# Altium schematic symbol library connector.SchLib: 55 symbols
Pins are listed as number, name and electrical type; pins without a type are passive.

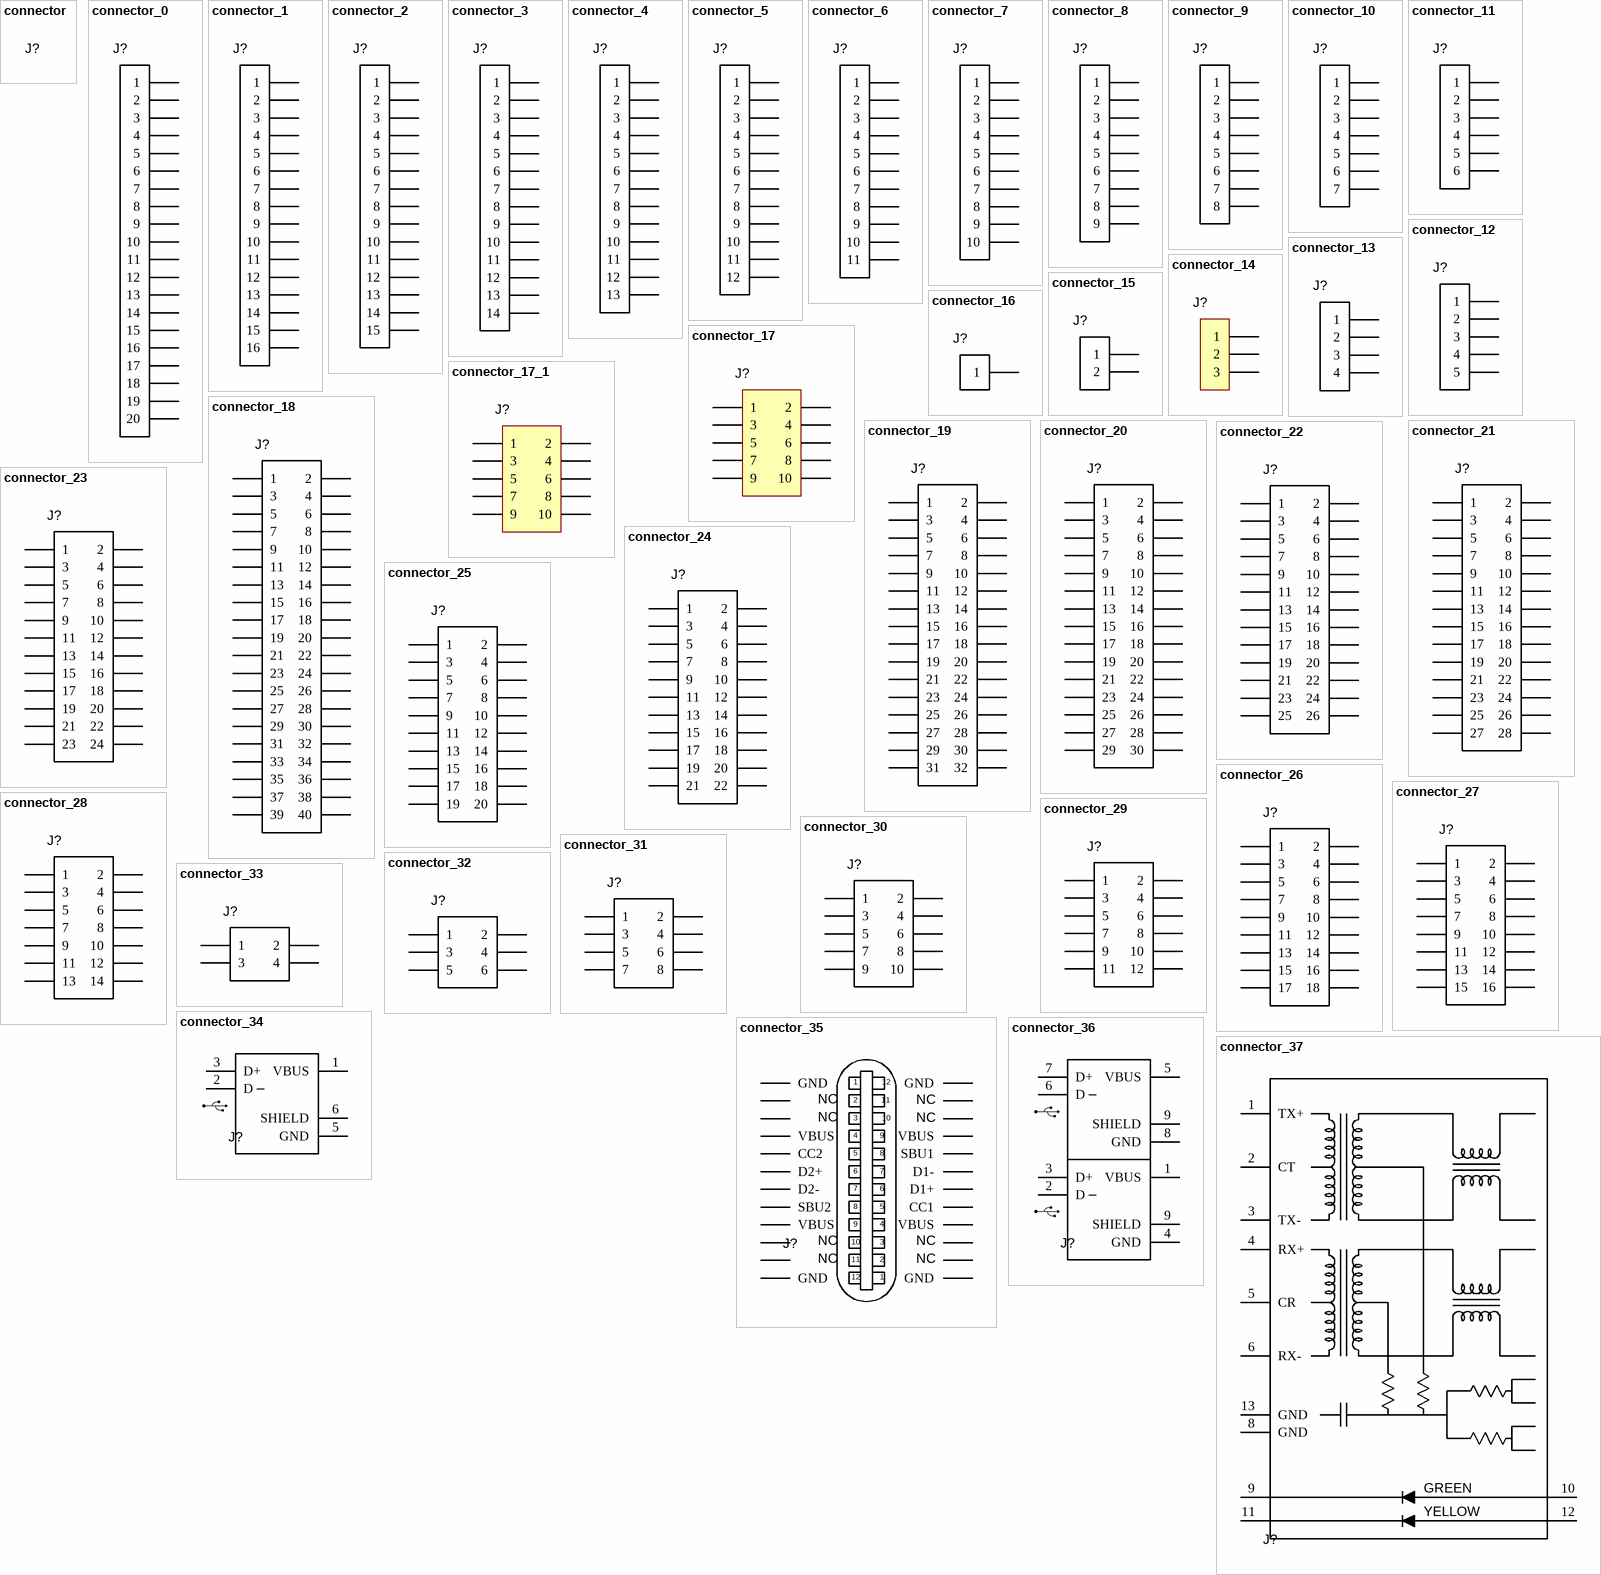
[diagram p0: symbols connector to connector_37]

## connector
designator J?
Template
footprint header male 1x2, pitch 2.54mm

## connector_0
designator J?, comment Header 2.54mm  (value not drawn)
Header male 1x20, pitch 2.54mm
footprint header male 1x20, pitch 2.54mm
pins: 1, 2, 3, 4, 5, 6, 7, 8, 9, 10, 11, 12, 13, 14, 15, 16, 17, 18, 19, 20

## connector_1
designator J?, comment Header 2.54mm  (value not drawn)
Header male 1x16, pitch 2.54mm
footprint header male 1x16, pitch 2.54mm
pins: 1, 2, 3, 4, 5, 6, 7, 8, 9, 10, 11, 12, 13, 14, 15, 16

## connector_2
designator J?, comment Header 2.54mm  (value not drawn)
Header male 1x15, pitch 2.54mm
footprint header male 1x15, pitch 2.54mm
pins: 1, 2, 3, 4, 5, 6, 7, 8, 9, 10, 11, 12, 13, 14, 15

## connector_3
designator J?, comment Header 2.54mm  (value not drawn)
Header male 1x14, pitch 2.54mm
footprint header male 1x14, pitch 2.54mm
pins: 1, 2, 3, 4, 5, 6, 7, 8, 9, 10, 11, 12, 13, 14

## connector_4
designator J?, comment Header 2.54mm  (value not drawn)
Header male 1x13, pitch 2.54mm
footprint header male 1x13, pitch 2.54mm
pins: 1, 2, 3, 4, 5, 6, 7, 8, 9, 10, 11, 12, 13

## connector_5
designator J?, comment Header 2.54mm  (value not drawn)
Header male 1x12, pitch 2.54mm
footprint header male 1x12, pitch 2.54mm
pins: 1, 2, 3, 4, 5, 6, 7, 8, 9, 10, 11, 12

## connector_6
designator J?, comment Header 2.54mm  (value not drawn)
Header male 1x11, pitch 2.54mm
footprint header male 1x11, pitch 2.54mm
pins: 1, 2, 3, 4, 5, 6, 7, 8, 9, 10, 11

## connector_7
designator J?, comment Header 2.54mm  (value not drawn)
Header male 1x10, pitch 2.54mm
footprint header male 1x10, pitch 2.54mm
pins: 1, 2, 3, 4, 5, 6, 7, 8, 9, 10

## connector_8
designator J?, comment Header 2.54mm  (value not drawn)
Header male 1x9, pitch 2.54mm
footprint header male 1x9, pitch 2.54mm
pins: 1, 2, 3, 4, 5, 6, 7, 8, 9

## connector_9
designator J?, comment Header 2.54mm  (value not drawn)
Header male 1x8, pitch 2.54mm
footprint header male 1x8, pitch 2.54mm
pins: 1, 2, 3, 4, 5, 6, 7, 8

## connector_10
designator J?, comment Header 2.54mm  (value not drawn)
Header male 1x7, pitch 2.54mm
footprint header male 1x7, pitch 2.54mm
pins: 1, 2, 3, 4, 5, 6, 7

## connector_11
designator J?, comment Header 2.54mm  (value not drawn)
Header male 1x6, pitch 2.54mm
footprint header male 1x6, pitch 2.54mm
pins: 1, 2, 3, 4, 5, 6

## connector_12
designator J?, comment Header 2.54mm  (value not drawn)
Header male 1x5, pitch 2.54mm
footprint header male 1x5, pitch 2.54mm
pins: 1, 2, 3, 4, 5

## connector_13
designator J?, comment Header 2.54mm  (value not drawn)
Header male 1x4, pitch 2.54mm
footprint header male 1x4, pitch 2.54mm
pins: 1, 2, 3, 4

## connector_14
designator J?, comment Header 2.54mm  (value not drawn)
Header male 1x3, pitch 2.54mm
footprint header male 1x3, pitch 2.54mm
pins: 1, 2, 3

## connector_15
designator J?, comment Header 2.54mm  (value not drawn)
Header male 1x2, pitch 2.54mm
footprint header male 1x2, pitch 2.54mm
pins: 1, 2

## connector_16
designator J?, comment Header 2.54mm  (value not drawn)
Header male 1x1, pitch 2.54mm
footprint header male 1x1, pitch 2.54mm
pins: 1

## connector_17
designator J?, comment Header 1.27mm  (value not drawn)
Header male 2x5, pitch 1.27mm
footprint header male 2x5, pitch 1.27mm
pins: 1, 2, 3, 4, 5, 6, 7, 8, 9, 10

## connector_17_1
designator J?
Header male 2x5, pitch 1.27mm, SMD
footprint header SMD 1.27
pins: 1, 2, 3, 4, 5, 6, 7, 8, 9, 10

## connector_18
designator J?, comment Header 2.54mm  (value not drawn)
Header male 2x20, pitch 2.54mm
footprint header male 2x20, pitch 2.54mm
pins: 1, 2, 3, 4, 5, 6, 7, 8, 9, 10, 11, 12, 13, 14, 15, 16, 17, 18, 19, 20, 21, 22, 23, 24, 25, 26, 27, 28, 29, 30, 31, 32, 33, 34, 35, 36, 37, 38, 39, 40

## connector_19
designator J?, comment Header 2.54mm  (value not drawn)
Header male 2x16, pitch 2.54mm
footprint header male 2x16, pitch 2.54mm
pins: 1, 2, 3, 4, 5, 6, 7, 8, 9, 10, 11, 12, 13, 14, 15, 16, 17, 18, 19, 20, 21, 22, 23, 24, 25, 26, 27, 28, 29, 30, 31, 32

## connector_20
designator J?, comment Header 2.54mm  (value not drawn)
Header male 2x15, pitch 2.54mm
footprint header male 2x15, pitch 2.54mm
pins: 1, 2, 3, 4, 5, 6, 7, 8, 9, 10, 11, 12, 13, 14, 15, 16, 17, 18, 19, 20, 21, 22, 23, 24, 25, 26, 27, 28, 29, 30

## connector_21
designator J?, comment Header 2.54mm  (value not drawn)
Header male 2x14, pitch 2.54mm
footprint header male 2x14, pitch 2.54mm
pins: 1, 2, 3, 4, 5, 6, 7, 8, 9, 10, 11, 12, 13, 14, 15, 16, 17, 18, 19, 20, 21, 22, 23, 24, 25, 26, 27, 28

## connector_22
designator J?, comment Header 2.54mm  (value not drawn)
Header male 2x13, pitch 2.54mm
footprint header male 2x13, pitch 2.54mm
pins: 1, 2, 3, 4, 5, 6, 7, 8, 9, 10, 11, 12, 13, 14, 15, 16, 17, 18, 19, 20, 21, 22, 23, 24, 25, 26

## connector_23
designator J?, comment Header 2.54mm  (value not drawn)
Header male 2x12, pitch 2.54mm
footprint header male 2x12, pitch 2.54mm
pins: 1, 2, 3, 4, 5, 6, 7, 8, 9, 10, 11, 12, 13, 14, 15, 16, 17, 18, 19, 20, 21, 22, 23, 24

## connector_24
designator J?, comment Header 2.54mm  (value not drawn)
Header male 2x11, pitch 2.54mm
footprint header male 2x11, pitch 2.54mm
pins: 1, 2, 3, 4, 5, 6, 7, 8, 9, 10, 11, 12, 13, 14, 15, 16, 17, 18, 19, 20, 21, 22

## connector_25
designator J?, comment Header 2.54mm  (value not drawn)
Header male 2x10, pitch 2.54mm
footprint header male 2x10, pitch 2.54mm
pins: 1, 2, 3, 4, 5, 6, 7, 8, 9, 10, 11, 12, 13, 14, 15, 16, 17, 18, 19, 20

## connector_26
designator J?, comment Header 2.54mm  (value not drawn)
Header male 2x9, pitch 2.54mm
footprint header male 2x9, pitch 2.54mm
pins: 1, 2, 3, 4, 5, 6, 7, 8, 9, 10, 11, 12, 13, 14, 15, 16, 17, 18

## connector_27
designator J?, comment Header 2.54mm  (value not drawn)
Header male 2x8, pitch 2.54mm
footprint header male 2x8, pitch 2.54mm
pins: 1, 2, 3, 4, 5, 6, 7, 8, 9, 10, 11, 12, 13, 14, 15, 16

## connector_28
designator J?, comment Header 2.54mm  (value not drawn)
Header male 2x7, pitch 2.54mm
footprint header male 2x7, pitch 2.54mm
pins: 1, 2, 3, 4, 5, 6, 7, 8, 9, 10, 11, 12, 13, 14

## connector_29
designator J?, comment Header 2.54mm  (value not drawn)
Header male 2x6, pitch 2.54mm
footprint header male 2x6, pitch 2.54mm
pins: 1, 2, 3, 4, 5, 6, 7, 8, 9, 10, 11, 12

## connector_30
designator J?, comment Header 2.54mm  (value not drawn)
Header male 2x5, pitch 2.54mm
footprint header male 2x5, pitch 2.54mm
pins: 1, 2, 3, 4, 5, 6, 7, 8, 9, 10

## connector_31
designator J?, comment Header 2.54mm  (value not drawn)
Header male 2x4, pitch 2.54mm
footprint header male 2x4, pitch 2.54mm
pins: 1, 2, 3, 4, 5, 6, 7, 8

## connector_32
designator J?, comment Header 2.54mm  (value not drawn)
Header male 2x3, pitch 2.54mm
footprint header male 2x3, pitch 2.54mm
pins: 1, 2, 3, 4, 5, 6

## connector_33
designator J?, comment Header 2.54mm  (value not drawn)
Header male 2x2, pitch 2.54mm
footprint header male 2x2, pitch 2.54mm
pins: 1, 2, 3, 4

## connector_34
designator J?, comment USB micro B  (value not drawn)
USB micro B (2.0); Manufacturer 1: Amphenol ICC (FCI); Manufacturer Part Number 1: 10118194-0001LF; Supplier 1: Digi-Key; Supplier Part Number 1: 609-4618-1-ND; Link: https://www.digikey.no/product-detail/en/amphenol-icc-fci/10118194-0001LF/609-4618-1-ND/2785382
footprint USB mico B female
pins: 1 VBUS, 2 D, 3 D+, 5 GND, 6 SHIELD
text: _

## connector_35
designator J?, comment USB 2.0  (value not drawn)
USB-C (2.0); Manufacturer 1: GCT; Manufacturer Part Number 1: USB4105-GF-A; Supplier 1: Digi-Key; Supplier Part Number 1: 2073-USB4105-GF-ACT-ND; Link: https://www.digikey.no/product-detail/no/gct/USB4105-GF-A/2073-USB4105-GF-ACT-ND/11198510
footprint USB4105-GF-A
pins: A1_B12 GND, A1_B12 GND, A4_B9 VBUS, A4_B9 VBUS, A5 CC1, A6 D1+, A7 D1-, A8 SBU1, B1_A12 GND, B1_A12 GND, B4_A9 VBUS, B4_A9 VBUS, B5 CC2, B6 D2+, B7 D2-, B8 SBU2
text: 1; 12; 2; 11; NC; 3; 10; 4; 9; 5; 8; 6; 7

## connector_36
designator J?, comment USB 2.0 A  (value not drawn)
USB A stacked (2.0); Manufacturer 1: CNC Tech; Manufacturer Part Number 1: 1002-004-01010; Supplier 1: Digi-Key; Supplier Part Number 1: 1175-1018-ND; Link: https://www.digikey.no/product-detail/no/cnc-tech/1002-004-01010/1175-1018-ND/3064749
footprint 1002-004-01010
pins: 1 VBUS, 2 D, 3 D+, 4 GND, 5 VBUS, 6 D, 7 D+, 8 GND, 9 SHIELD, 9 SHIELD
text: _

## connector_37
designator J?, comment 10/100 Base-T Ethernet  (value not drawn)
Ethernet, 1 port, 10/100 Base-T, RJ45; Manufacturer 1: WIZnet; Manufacturer Part Number 1: J1B1211CCD; Supplier 1: Digi-Key; Supplier Part Number 1: 1278-1052-ND; Link: https://www.digikey.no/products/no?keywords=J1B1211CCD
footprint J1B1211CCD
pins: 1 TX+, 2 CT, 3 TX-, 4 RX+, 5 CR, 6 RX-, 8 GND, 9, 10, 11, 12, 13 GND
text: GREEN; YELLOW

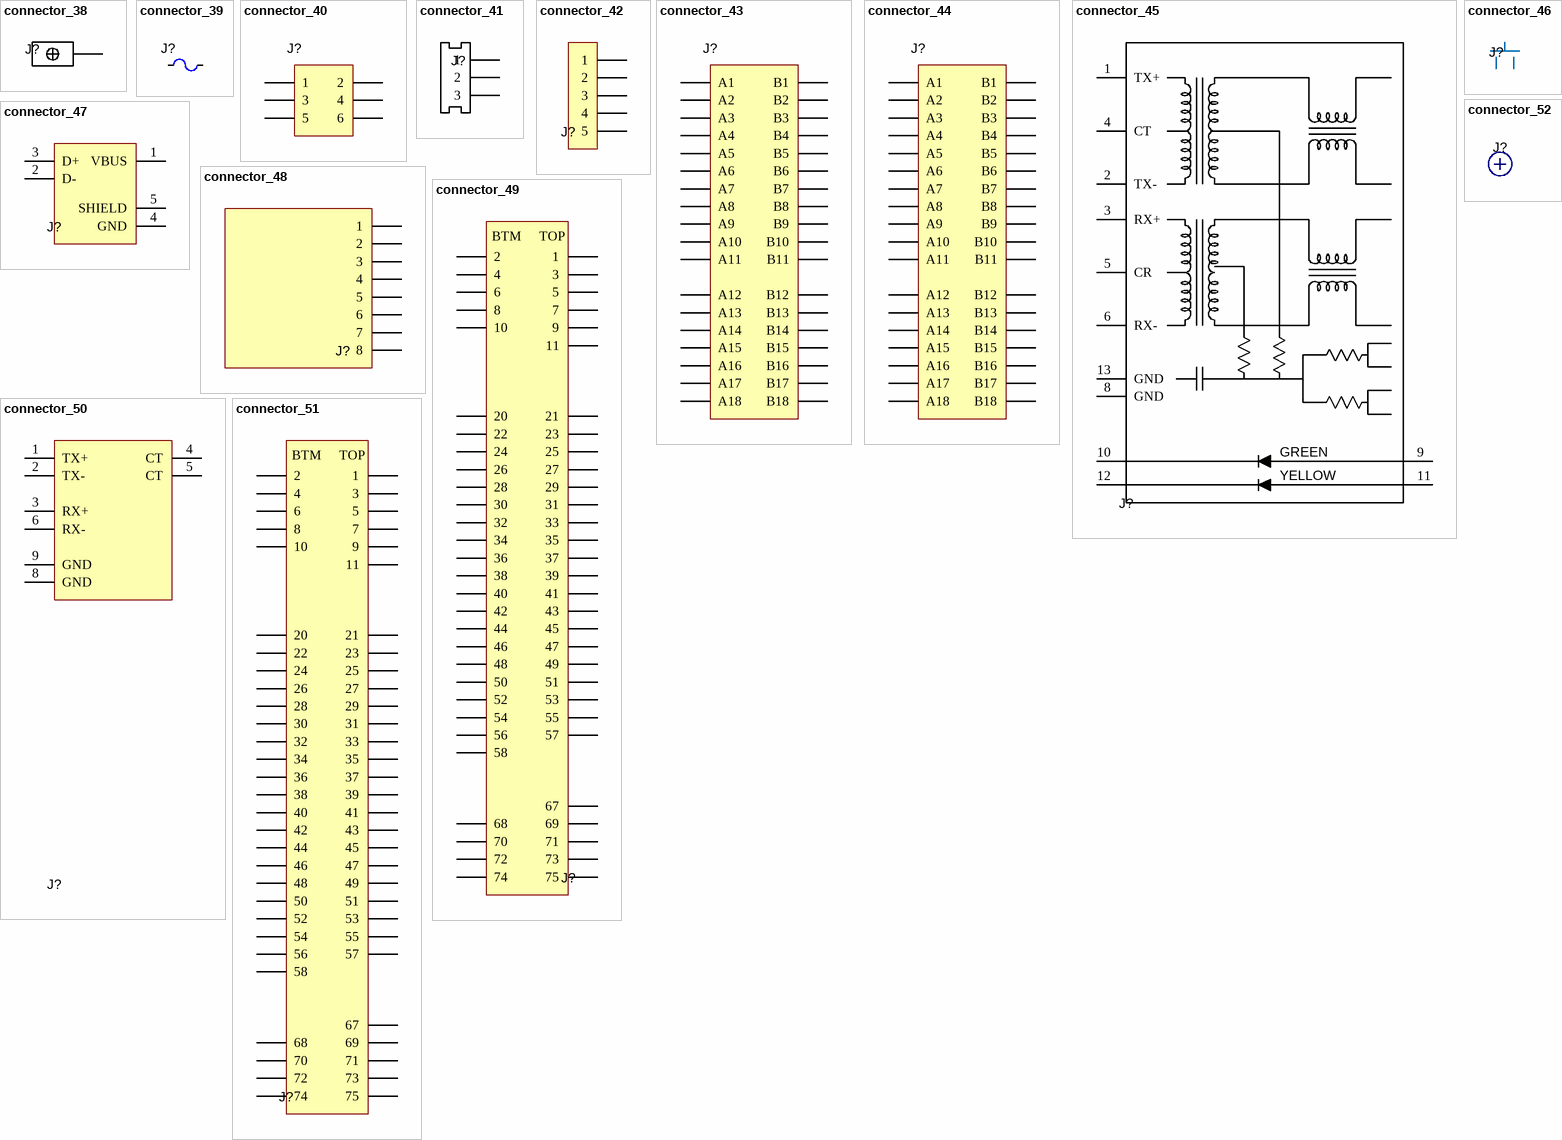
[diagram p1: symbols connector_38 to connector_52]

## connector_38
designator J?
Screw terminal, 6 pins, M4, TH; Manufacturer 1: Keystone Electronics; Manufacturer Part Number 1: 7800; Supplier 1: Digi-Key; Supplier Part Number 1: 36-7800-ND; Link: https://www.digikey.no/products/no?keywords=36-7800-ND
footprint 7800
pins: 1

## connector_39
designator J?
Fuse holder, blade, 30A, 500V, TH; Manufacturer 1: Keystone Electronics; Manufacturer Part Number 1: 3557-2; Supplier 1: Digi-Key; Supplier Part Number 1: 36-3557-2-ND; Link: https://www.digikey.no/product-detail/no/keystone-electronics/3557-2/36-3557-2-ND/2137305; Current: 30A; Voltage: 500V
footprint 3557-2
pins: 1, 2

## connector_40
designator J?, comment ATX  (value not drawn)
ATX, 6 pins, 9A, TH; Manufacturer Part Number 1: 4-1775099-1; Manufacturer 1: TE Connectivity AMP Connectors; Supplier Part Number 1: A128802-ND; Supplier 1: Digi-Key; Link: https://www.digikey.no/products/no?keywords=4-1775099-1
footprint A128802-ND
pins: 1, 2, 3, 4, 5, 6

## connector_41
designator J?
JST connector 1x3, pitch 2.5mm, right angle, TH; Manufacturer 1: JST (JAPAN SOLDERLESS TERMINALS); Manufacturer Part Number 1: S3B-XH-A (LF)(SN); Supplier 1: Farnell; Supplier Part Number 1: 1516290; Link: https://no.farnell.com/jst-japan-solderless-terminals/s3b-xh-a-lf-sn/header-right-angle-3way/dp/1516290?st=jst
footprint S3B-XH-A (LF)(SN)
pins: 1, 2, 3

## connector_42
designator J?
JST connector 1x5, pitch 1mm, right angle, TH; Manufacturer 1: JST Sales America Inc.; Manufacturer Part Number 1: SM05B-SRSS-TB(LF)(SN); Supplier 1: Digi-Key; Supplier Part Number 1: 455-1805-2-ND; Link: https://www.digikey.no/en/products/detail/jst-sales-america-inc/SM05B-SRSS-TB-LF-SN/926711
footprint SM05B-SRSS-TB
pins: 1, 2, 3, 4, 5

## connector_43
designator J?, comment PCI x1  (value not drawn)
Manufacturer 1: Amphenol ICC (FCI); Manufacturer Part Number 1: CONN PCI EXP FEMALE 36POS 0.039; Supplier 1: Digi-Key; Supplier Part Number 1: 609-2029-ND; Link: https://www.digikey.no/en/products/detail/amphenol-icc-fci/10018784-10210TLF/1002344
footprint 10018784-10210TLF-PCB
pins: A1, A2, A3, A4, A5, A6, A7, A8, A9, A10, A11, A12, A13, A14, A15, A16, A17, A18, B1, B2, B3, B4, B5, B6, B7, B8, B9, B10, B11, B12, B13, B14, B15, B16, B17, B18

## connector_44
designator J?, comment PCI x1  (value not drawn)
PCI x1 socket; Manufacturer 1: Amphenol ICC (FCI); Manufacturer Part Number 1: CONN PCI EXP FEMALE 36POS 0.039; Supplier 1: Digi-Key; Supplier Part Number 1: 609-2029-ND; Link: https://www.digikey.no/en/products/detail/amphenol-icc-fci/10018784-10210TLF/1002344
footprint 10018784-10210TLF-SOCKET
pins: A1, A2, A3, A4, A5, A6, A7, A8, A9, A10, A11, A12, A13, A14, A15, A16, A17, A18, B1, B2, B3, B4, B5, B6, B7, B8, B9, B10, B11, B12, B13, B14, B15, B16, B17, B18

## connector_45
designator J?, comment 10/100 Base-T Ethernet  (value not drawn)
Ethernet, 1 port, 10/100 Base-T, RJ45; Manufacturer 1: Abracon LLC; Manufacturer Part Number 1: ARJM11A3-009-AB-ER2-T; Supplier 1: Digi-Key; Supplier Part Number 1: 535-14136-2-ND; Link: https://www.digikey.no/no/products/detail/abracon-llc/ARJM11A3-009-AB-ER2-T/7675205
footprint ARJM11A3-009-AB-ER2-T
pins: 1 TX+, 2 TX-, 3 RX+, 4 CT, 5 CR, 6 RX-, 8 GND, 9, 10, 11, 12, 13 GND
text: GREEN; YELLOW

## connector_46
designator J?
Jumper
footprint header male 1x2, pitch 2.54mm
pins: 1, 2

## connector_47
designator J?, comment USB A  (value not drawn)
USB A TH (2.0); Manufacturer 1: Cvilux USA; Manufacturer Part Number 1: CU01SAH0S00; Supplier 1: Digi-Key; Supplier Part Number 1: 2987-CU01SAH0S00-ND; Link: https://www.digikey.no/en/products/detail/cvilux-usa/CU01SAH0S00/13177442
footprint 292303-6
pins: 1 VBUS, 2 D-, 3 D+, 4 GND, 5 SHIELD

## connector_48
designator J?
RJ45, NO magnetics, 8p8c, unshielded; Manufacturer 1: Amphenol ICC (FCI); Manufacturer Part Number 1: 54602-908LF; Supplier 1: Digi-Key; Supplier Part Number 1: 609-1046-ND; Link: https://www.digikey.no/en/products/detail/amphenol-icc-fci/54602-908LF/1001360
footprint 54602-908LF
pins: 1, 2, 3, 4, 5, 6, 7, 8

## connector_49
designator J?
m.2 module, key B+M
footprint M2_PCB
pins: 1, 2, 3, 4, 5, 6, 7, 8, 9, 10, 11, 20, 21, 22, 23, 24, 25, 26, 27, 28, 29, 30, 31, 32, 33, 34, 35, 36, 37, 38, 39, 40, 41, 42, 43, 44, 45, 46, 47, 48, 49, 50, 51, 52, 53, 54, 55, 56, 57, 58, 67, 68, 69, 70, 71, 72, 73, 74, 75
text: BTM; TOP

## connector_50
designator J?, comment 10/100 Base-T Ethernet  (value not drawn)
Ethernet, 1 port, 10/100 Base-T, RJ45, No LEDs, TH; Manufacturer 1: Abracon LLC; Manufacturer Part Number 1: ARJM11C7-009-NN-EW2; Supplier 1: Digi-Key; Supplier Part Number 1: 535-14142-ND; Link: https://www.digikey.no/en/products/detail/abracon-llc/ARJM11C7-009-NN-EW2/7675211
footprint ARJM11C7-009-NN-EW2
pins: 1 TX+, 2 TX-, 3 RX+, 4 CT, 5 CT, 6 RX-, 8 GND, 9 GND

## connector_51
designator J?
m.2 connector, key M; Manufacturer 1: JAE Electronics; Manufacturer Part Number 1: SM3ZS067U410AMR1000; Supplier 1: Digi-Key; Supplier Part Number 1: 670-2693-6-ND; Link: https://www.digikey.no/en/products/detail/jae-electronics/SM3ZS067U410AMR1000/4162230
footprint SM3ZS067U410AER1000
pins: 1, 2, 3, 4, 5, 6, 7, 8, 9, 10, 11, 20, 21, 22, 23, 24, 25, 26, 27, 28, 29, 30, 31, 32, 33, 34, 35, 36, 37, 38, 39, 40, 41, 42, 43, 44, 45, 46, 47, 48, 49, 50, 51, 52, 53, 54, 55, 56, 57, 58, 67, 68, 69, 70, 71, 72, 73, 74, 75
text: BTM; TOP

## connector_52
designator J?
Standoff, M2, Thread = 0.4mm, Length = 3mm, SMD; Manufacturer 1: M2x0.4; Manufacturer Part Number 1: 9774030243R; Supplier 1: Digi-Key; Supplier Part Number 1: 732-7085-2-ND; Link: https://www.digikey.no/en/products/detail/w%C3%BCrth-elektronik/9774030243R/5320628
footprint Standoff M2, Thread = 0.4, Length = 3.0mm